# Altium footprint library ECE Lib3.PcbLib: 39 footprints (part 3 of 3)
Each footprint in its own frame and in the unit in brackets; x right, y up, seen from the top. Pads: shape width x height; smd on the part's side, far side on the other; paste and mask are expansions set on the pad; w line width, h text height; cw(c..) or ccw(c..) is an arc to the next point about the centre after c.
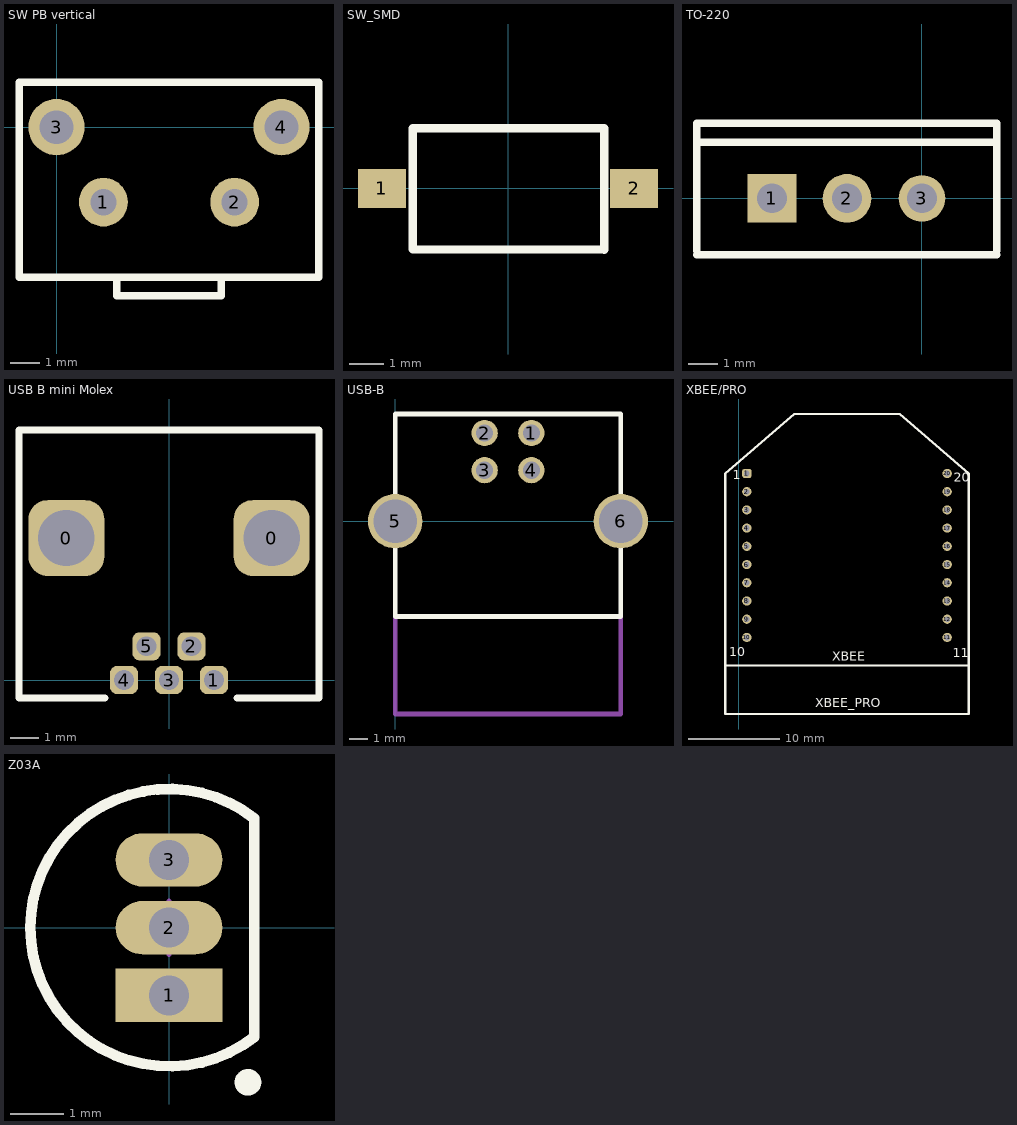
[diagram p2: the footprints below, top view; thin cyan lines are the x and y axes]

## SW PB vertical [mil]
pads (4):
  round 65 hole 35: 1(62.5,-100) 2(237.5,-100)
  round 75 hole 45: 3(0,0) 4(300,0)
Top Overlay:
  lines w10: 80,-200 80,-225 220,-225 220,-200 ; -50,-200 350,-200 350,60 175,60 -50,60 -50,-200

## SW_SMD [mil]
pads (2):
  rect 55x45 smd: 1(-145,0) 2(145,0)
Top Overlay:
  lines w10: 110.56,-70.7 110.56,69.15 -109.37,68.94 -109.37,-0.04 -109.37,-70.07 110.78,-70.49

## TO-220 [mil]
pads (3):
  rect 65x65 hole 39.4: 1(-200,0)
  round 65 hole 39.4: 2(-100,0)
  round 62 hole 39.4: 3(0,0)
Top Overlay:
  lines w10: -300,-75 100,-75 ; -300,-70 -300,100 100,100 100,-70 ; -300,75 100,75

## USB B mini Molex [mm]
pads (7):
  rrect50% 2.7x2.7 hole 2: 0(-3.65,5.05) 0(3.65,5.05)
  rrect50% 1x1 hole 0.7: 1(1.6,0) 2(0.8,1.2) 3(0,0) 4(-1.6,0) 5(-0.8,1.2)
Top Overlay:
  lines w0.254: -2.286,-0.635 -5.334,-0.635 -5.334,5.08 -5.334,8.89 5.334,8.89 5.334,-0.635 2.413,-0.635

## USB-B [mil]
pads (6):
  round 55 hole 36: 1(286,185) 2(188,185) 3(188,107) 4(286,107)
  round 114.17 hole 91: 5(0,0) 6(474,0)
Top Overlay:
  lines w10: 0,-200 474,-200 474,225 0,225 0,-200
Mechanical 1:
  lines w10: 0,-200 0,-405 474,-405 474,-200

## XBEE/PRO [mil]
pads (20):
  rrect50% 40x40 hole 25: 1(35,-432.09)
  round 40 hole 25: 2(35,-510.83) 3(35,-589.57) 4(35,-668.31) 5(35,-747.05) 6(35,-825.79) 7(35,-904.53) 8(35,-983.27) 9(35,-1062.01) 10(35,-1140.75) 11(901.14,-1140.75) 12(901.14,-1062.01) 13(901.14,-983.27) 14(901.14,-904.53) 15(901.14,-825.79) 16(901.14,-747.05) 17(901.14,-668.31) 18(901.14,-589.57) 19(901.14,-510.83) 20(901.14,-432.09)
Top Overlay:
  lines w10: -58.7,-1262.09 994.84,-1262.09 ; 994.84,-431.93 994.84,-432.09 ; 994.84,-432.09 696.02,-175 240.12,-175 -58.7,-432.09 -58.7,-1471.85 994.84,-1471.85 994.84,-432.09
  text "XBEE" at 405,-1242.09 h40
  text "XBEE_PRO" at 330,-1442.09 h40
  text "1" at -25,-457.09 h40
  text "10" at -40,-1222.09 h40
  text "11" at 925,-1227.09 h40
  text "20" at 930,-467.09 h40

## Z03A [mm]
pads (3):
  rect 2x1 hole 0.75: 1(0,-1.27)
  oval 2x1 hole 0.75: 2(0,0) 3(0,1.27)
Top Overlay:
  circle w0.25: c1.48,-2.9 r0.125
  lines w0.2: 1.601,-2.049 cw(c0,0) 1.601,2.049 1.6,-2.049
Mechanical 13:
  lines w0.1: 1.601,-2.049 cw(c0,0) 1.601,2.049 1.6,-2.049
Mechanical 15:
  lines w0.1: -0.5,0 0.5,0 ; 0,-0.5 0,0.5
3D body: height 5.2, standoff 0, extent -2.599,-2.611 1.6,2.611